# EAGLE library part TRHEI481-2 (library #PaJa_30)
Transformator - do DPS - 10 VA - 2x sek.
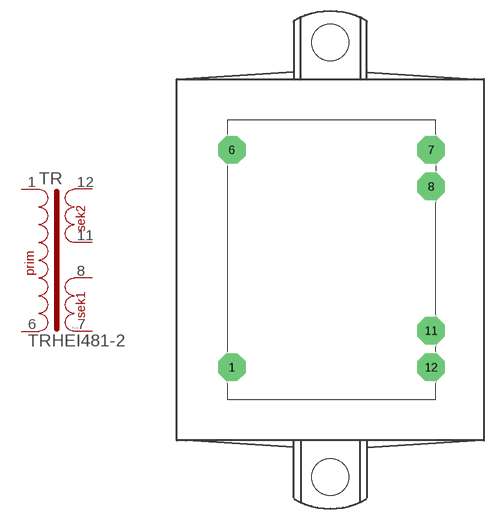
[diagram p45: symbol with the pads of TRHEI481; footprint TRHEI481]

Designator prefix TR

## TRHEI481-2  [TRHEI481]
1  P1  pas
6  P2  pas
7  S1-1  pas
8  S1-2  pas
11  S2-1  pas
12  S2-2  pas

## Footprint TRHEI481 (pad centres in mm)
drill 1.27 pad 3.81 octagon: 1 -13.652,-14.922; 6 -13.652,15.24; 7 13.97,15.24; 8 13.97,10.16; 11 13.97,-9.842; 12 13.97,-14.922
hole 5.08 at 0,30.163
hole 5.08 at 0,-30.163